# Altium footprint library MP1584.PcbLib: 1 footprints
Each footprint in its own frame and in the unit in brackets; x right, y up, seen from the top. Pads: shape width x height; smd on the part's side, far side on the other; paste and mask are expansions set on the pad; w line width, h text height; cw(c..) or ccw(c..) is an arc to the next point about the centre after c.
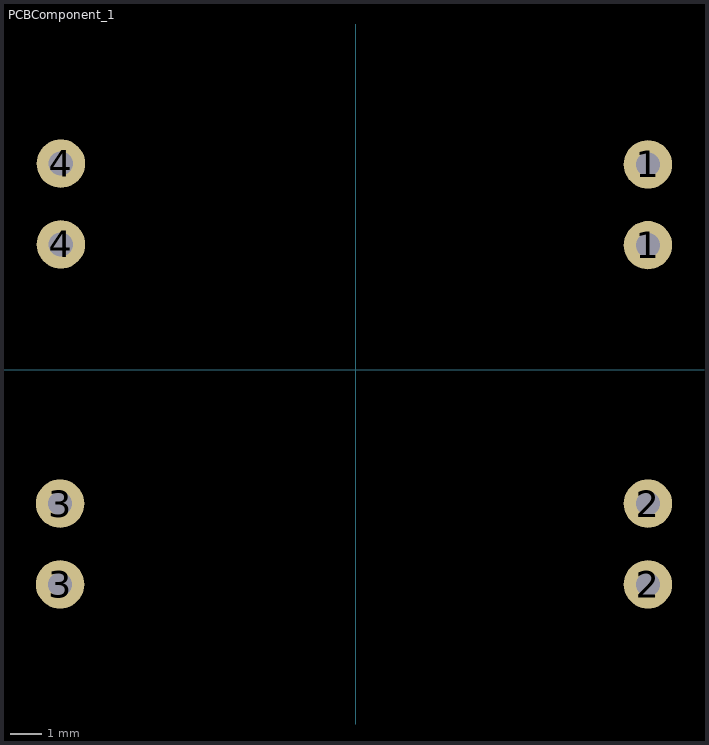
[diagram p0: the footprint, top view; thin cyan lines are the x and y axes]

## PCBComponent_1 [mil]
pads (8):
  round 60 hole 30: 1(362,154) 1(362,254) 2(362,-266) 2(362,-166) 3(-366,-266) 3(-366,-166) 4(-365,155) 4(-365,255)
3D body "D-SUN_dcdc_step_down_Simple_NoSilk_.step": height 161.42, standoff 0, extent -435,-336.41 435.08,325